# EAGLE library part TB6552_MOTOR_DRIVER (library SophiEaglev9)
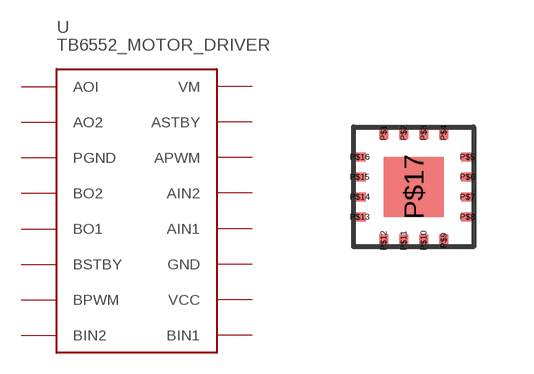
[diagram p4: symbol with the pads of TB6552FN_MOTOR_DRIVER; footprint TB6552FN_MOTOR_DRIVER]

Designator prefix -

## TB6552_MOTOR_DRIVER  [TB6552FN_MOTOR_DRIVER]
P$1  AOI
P$2  AO2
P$3  PGND
P$4  BO2
P$5  BO1
P$6  BSTBY
P$7  BPWM
P$8  BIN2
P$9  BIN1
P$10  VCC
P$11  GND
P$12  AIN1
P$13  AIN2
P$14  APWM
P$15  ASTBY
P$16  VM

## Footprint TB6552FN_MOTOR_DRIVER (pad centres in mm)
smd 0.225 x 0.307: P$1 0.75,2.846; P$2 1.25,2.846; P$3 1.75,2.846; P$4 2.25,2.846; P$9 2.25,0.153; P$10 1.75,0.153; P$11 1.25,0.153; P$12 0.75,0.153
smd 0.307 x 0.225: P$5 2.846,2.25; P$6 2.846,1.75; P$7 2.846,1.25; P$8 2.846,0.75; P$13 0.153,0.75; P$14 0.153,1.25; P$15 0.153,1.75; P$16 0.153,2.25
smd 1.5 x 1.5: P$17 1.5,1.5